# EAGLE library part ADS1115 (library LARS_409_MC)
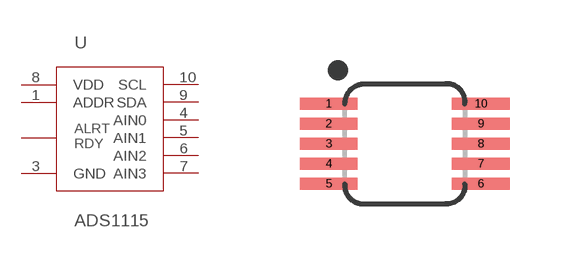
[diagram p28: symbol with the pads of SOP-10N; footprint SOP-10N]

Designator prefix U

## ADS1115U  [SOP-10N]
1  ADDR
2  ALERT/RDY
3  GND
4  AIN0
5  AIN1
6  AIN2
7  AIN3
8  VDD
9  SDA
10  SCL

## Footprint SOP-10N (pad centres in mm)
10-SOP, 0.50 mm pitch, 4.90 mm span, 3.00 X 3.00 X 1.10 mm body 10-pin SOP package with 0.50 mm pitch, 4.90 mm span with body size 3.00 X 3.00 X 1.10 mm
smd 1.45 x 0.3: 1 -1.905,1; 2 -1.905,0.5; 3 -1.905,0; 4 -1.905,-0.5; 5 -1.905,-1; 6 1.905,-1; 7 1.905,-0.5; 8 1.905,0; 9 1.905,0.5; 10 1.905,1